# Altium footprint library PCB - CONNECTOR - OST - OST OSTTC100162.PcbLib: 1 footprints
Each footprint in its own frame and in the unit in brackets; x right, y up, seen from the top. Pads: shape width x height; smd on the part's side, far side on the other; paste and mask are expansions set on the pad; w line width, h text height; cw(c..) or ccw(c..) is an arc to the next point about the centre after c.
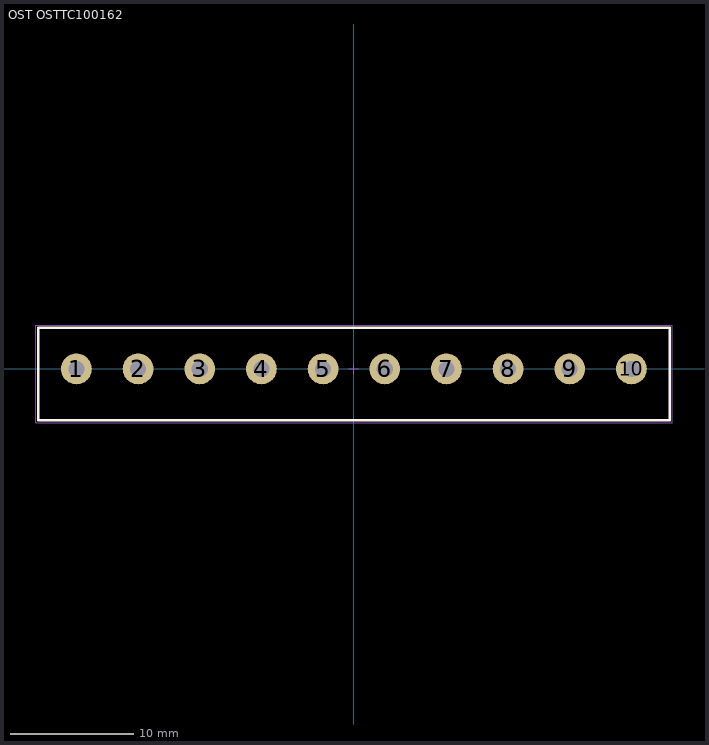
[diagram p0: the footprint, top view; thin cyan lines are the x and y axes]

## OST OSTTC100162 [mm] "Wire to Board Terminal Block Horizontal with Board, 10 Postions, Body 51.2x7.5mm, Pitch 5mm"
height 10.3
pads (10):
  round 2.5 hole 1.3: 1(-22.5,0) 2(-17.5,0) 3(-12.5,0) 4(-7.5,0) 5(-2.5,0) 6(2.5,0) 7(7.5,0) 8(12.5,0) 9(17.5,0) 10(22.5,0)
Top Overlay:
  lines w0.2: -25.593,-4.16 25.607,-4.16 25.607,3.34 -25.593,3.34 -25.593,-4.16
Mechanical 13:
  lines w0.1: -25.593,-4.16 25.607,-4.16 25.607,3.34 -25.593,3.34 -25.593,-4.16
Mechanical 15 (Mech15):
  lines w0.05: -25.793,-4.36 -25.793,3.54 25.807,3.54 25.807,-4.36 -25.793,-4.36
  lines w0.1: -0.4,0 0,0 ; 0,-0.4 0,0 ; 0,0.4 0,0 ; 0.4,0 0,0
3D body "OST - OSTTC100162.stp": height 10.3, standoff -3.8, extent -25.593,-4.16 25.607,3.34